# Altium footprint library LCD16x2I2C.PcbLib: 1 footprints
Each footprint in its own frame and in the unit in brackets; x right, y up, seen from the top. Pads: shape width x height; smd on the part's side, far side on the other; paste and mask are expansions set on the pad; w line width, h text height; cw(c..) or ccw(c..) is an arc to the next point about the centre after c.
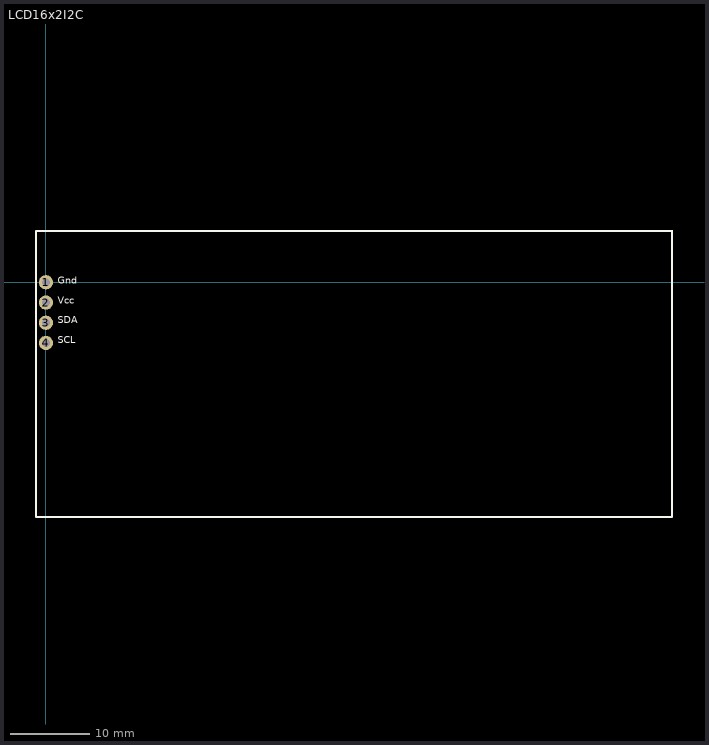
[diagram p0: the footprint, top view; thin cyan lines are the x and y axes]

## LCD16x2I2C [mm]
pads (4):
  round 1.8 hole 1: 1(0,0) 2(0,-2.54) 3(0,-5.08) 4(0,-7.62)
Top Overlay:
  lines w0.254: -1.273,-29.442 -1.273,6.466 78.669,6.466 78.683,6.453 78.683,-29.504 78.681,-29.502 -1.213,-29.502 -1.273,-29.442
  text "SCL" at 1.5,-7.983 h1.52
  text "SDA" at 1.5,-5.483 h1.52
  text "Vcc" at 1.501,-2.984 h1.52
  text "Gnd" at 1.5,-0.483 h1.52
3D body "LCD_I2C_1602.SLDPRT": height 19.1, standoff 3.75, extent -1.271,-29.536 78.729,6.464
3D body "header 4x2.54(90).step": height 5.36, standoff -2.65, extent -1.302,-8.843 6.088,1.317